# EAGLE library part BB-TH (library Mechanical)
2x27 grid breadboard with 27 42mil, 100mil spaced trhu-hole connections
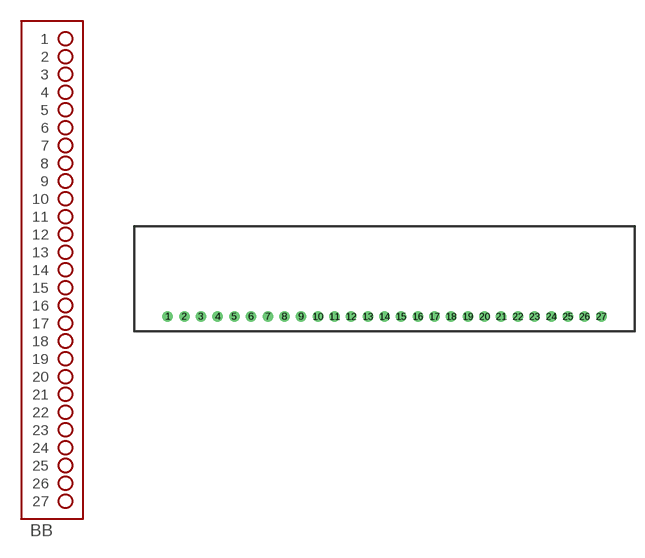
[diagram p43: symbol with the pads of BB-4X27-TH; footprint BB-4X27-TH]

Designator prefix BB

## BB-TH-4X27  [BB-4X27-TH]
1  1  pas
2  2  pas
3  3  pas
4  4  pas
5  5  pas
6  6  pas
7  7  pas
8  8  pas
9  9  pas
10  10  pas
11  11  pas
12  12  pas
13  13  pas
14  14  pas
15  15  pas
16  16  pas
17  17  pas
18  18  pas
19  19  pas
20  20  pas
21  21  pas
22  22  pas
23  23  pas
24  24  pas
25  25  pas
26  26  pas
27  27  pas

## Footprint BB-4X27-TH (pad centres in mm)
drill 1.067: 1 -33.02,0; 2 -30.48,0; 3 -27.94,0; 4 -25.4,0; 5 -22.86,0; 6 -20.32,0; 7 -17.78,0; 8 -15.24,0; 9 -12.7,0; 10 -10.16,0; 11 -7.62,0; 12 -5.08,0; 13 -2.54,0; 14 0,0; 15 2.54,0; 16 5.08,0; 17 7.62,0; 18 10.16,0; 19 12.7,0; 20 15.24,0; 21 17.78,0; 22 20.32,0; 23 22.86,0; 24 25.4,0; 25 27.94,0; 26 30.48,0; 27 33.02,0